# Altium footprint library MOLEX_22-23-2xx1.PcbLib: 9 footprints
Each footprint in its own frame and in the unit in brackets; x right, y up, seen from the top. Pads: shape width x height; smd on the part's side, far side on the other; paste and mask are expansions set on the pad; w line width, h text height; cw(c..) or ccw(c..) is an arc to the next point about the centre after c.
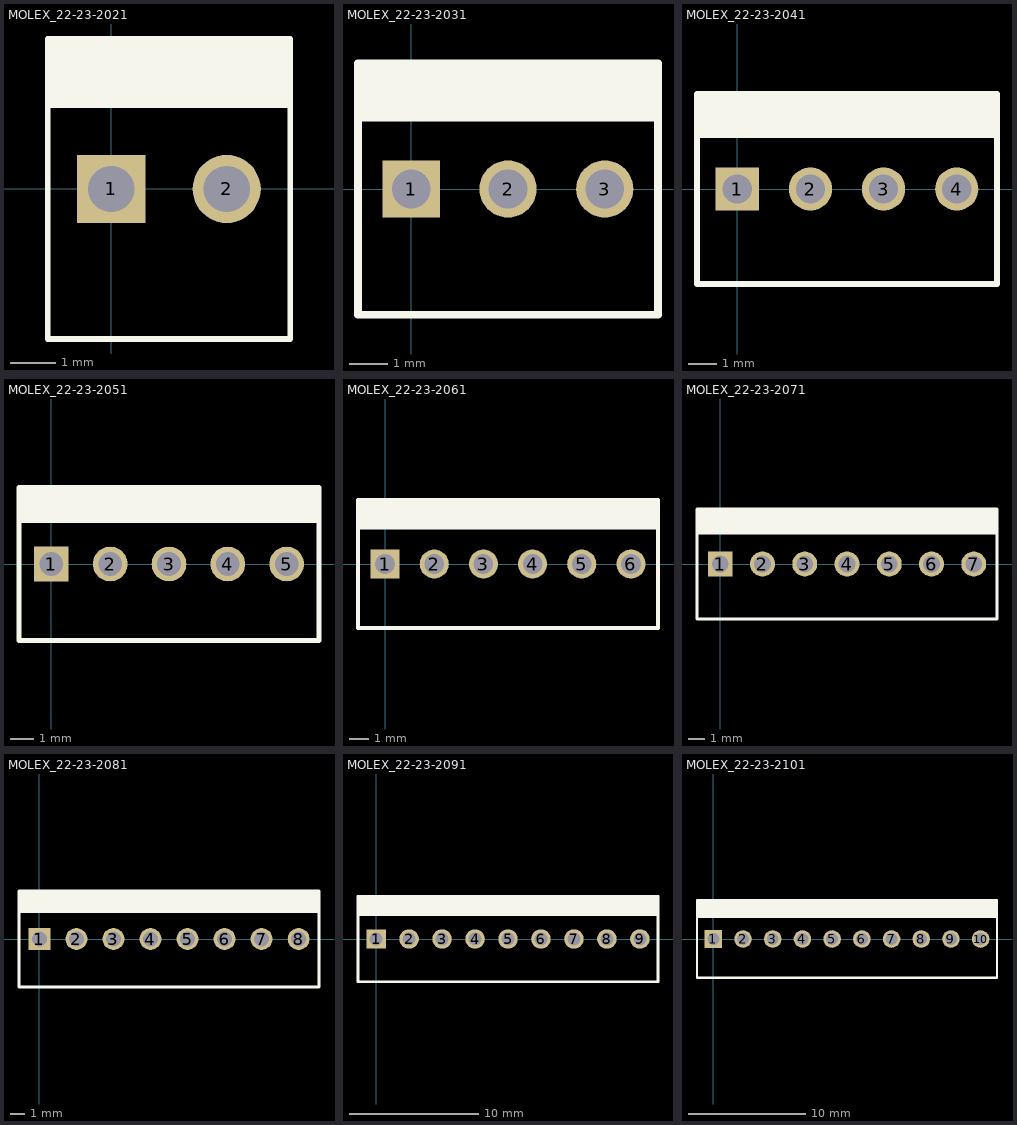
[diagram p0: the footprints below, top view; thin cyan lines are the x and y axes]

## MOLEX_22-23-2021 [mm]
pads (2):
  rect 1.5x1.5 hole 1.016: 1(0,0)
  round 1.5 hole 1.016: 2(2.54,0)
Top Overlay:
  rectangle: -1.397,1.778 3.937,3.302
  lines w0.127: -1.397,-3.302 -1.397,3.302 3.937,3.302 3.937,-3.302 -1.397,-3.302
3D body: height 10.74, standoff -3.48, extent -1.27,-3.175 3.81,3.175

## MOLEX_22-23-2031 [mm]
pads (3):
  rect 1.5x1.5 hole 1.016: 1(0,0)
  round 1.5 hole 1.016: 2(2.54,0) 3(5.08,0)
Top Overlay:
  rectangle: -1.397,1.778 6.477,3.302
  lines w0.2: -1.397,-3.302 -1.397,3.302 6.477,3.302 6.477,-3.302 -1.397,-3.302
3D body: height 10.74, standoff -3.48, extent -1.27,-3.175 6.35,3.175

## MOLEX_22-23-2041 [mm]
pads (4):
  rect 1.5x1.5 hole 1.016: 1(0,0)
  round 1.5 hole 1.016: 2(2.54,0) 3(5.08,0) 4(7.62,0)
Top Overlay:
  rectangle: -1.397,1.778 3.937,3.302
  rectangle: 3.683,1.778 9.017,3.302
  lines w0.2: 3.683,-3.302 9.017,-3.302 9.017,3.302 3.683,3.302 ; 3.937,-3.302 -1.397,-3.302 -1.397,3.302 3.937,3.302
3D body: height 10.74, standoff -3.48, extent 1.27,-3.175 8.89,3.175
3D body: height 10.74, standoff -3.48, extent -1.27,-3.175 6.35,3.175

## MOLEX_22-23-2051 [mm]
pads (5):
  rect 1.5x1.5 hole 1.016: 1(0,0)
  round 1.5 hole 1.016: 2(2.54,0) 3(5.08,0) 4(7.62,0) 5(10.16,0)
Top Overlay:
  rectangle: -1.397,1.778 11.557,3.302
  lines w0.2: -1.397,-3.302 -1.397,3.302 11.557,3.302 11.557,-3.302 -1.397,-3.302
3D body: height 10.74, standoff -3.48, extent 3.81,-3.175 11.43,3.175
3D body: height 10.74, standoff -3.48, extent -1.27,-3.175 6.35,3.175

## MOLEX_22-23-2061 [mm]
pads (6):
  rect 1.5x1.5 hole 1.016: 1(0,0)
  round 1.5 hole 1.016: 2(2.54,0) 3(5.08,0) 4(7.62,0) 5(10.16,0) 6(12.7,0)
Top Overlay:
  region: 14.097,3.302 -1.397,3.302 -1.397,1.778 14.097,1.778
  lines w0.2: -1.397,-3.302 -1.397,3.302 14.097,3.302 14.097,-3.302 -1.397,-3.302
3D body: height 10.74, standoff -3.48, extent -1.27,-3.175 6.35,3.175
3D body: height 10.74, standoff -3.48, extent 3.81,-3.175 11.43,3.175
3D body: height 10.74, standoff -3.48, extent 6.35,-3.175 13.97,3.175

## MOLEX_22-23-2071 [mm]
pads (7):
  rect 1.5x1.5 hole 1.016: 1(0,0)
  round 1.5 hole 1.016: 2(2.54,0) 3(5.08,0) 4(7.62,0) 5(10.16,0) 6(12.7,0) 7(15.24,0)
Top Overlay:
  region: 16.637,3.302 -1.397,3.302 -1.397,1.778 16.637,1.778
  lines w0.2: -1.397,-3.302 -1.397,3.302 16.637,3.302 16.637,-3.302 -1.397,-3.302
3D body: height 10.74, standoff -3.48, extent -1.27,-3.175 6.35,3.175
3D body: height 10.74, standoff -3.48, extent 3.81,-3.175 11.43,3.175
3D body: height 10.74, standoff -3.48, extent 8.89,-3.175 16.51,3.175

## MOLEX_22-23-2081 [mm]
pads (8):
  rect 1.5x1.5 hole 1.016: 1(0,0)
  round 1.5 hole 1.016: 2(2.54,0) 3(5.08,0) 4(7.62,0) 5(10.16,0) 6(12.7,0) 7(15.24,0) 8(17.78,0)
Top Overlay:
  region: 19.177,3.302 -1.397,3.302 -1.397,1.778 19.177,1.778
  lines w0.2: -1.397,-3.302 19.177,-3.302 19.177,3.302 -1.397,3.302 -1.397,-3.302
3D body: height 10.74, standoff -3.48, extent 11.43,-3.175 19.05,3.175
3D body: height 10.74, standoff -3.48, extent 8.89,-3.175 16.51,3.175
3D body: height 10.74, standoff -3.48, extent 3.81,-3.175 11.43,3.175
3D body: height 10.74, standoff -3.48, extent -1.27,-3.175 6.35,3.175

## MOLEX_22-23-2091 [mm]
pads (9):
  rect 1.5x1.5 hole 1.016: 1(0,0)
  round 1.5 hole 1.016: 2(2.54,0) 3(5.08,0) 4(7.62,0) 5(10.16,0) 6(12.7,0) 7(15.24,0) 8(17.78,0) 9(20.32,0)
Top Overlay:
  region: 21.717,3.302 -1.397,3.302 -1.397,1.778 21.717,1.778
  lines w0.2: -1.397,-3.302 -1.397,3.302 21.717,3.302 21.717,-3.302 -1.397,-3.302
3D body: height 10.74, standoff -3.48, extent 13.97,-3.175 21.59,3.175
3D body: height 10.74, standoff -3.48, extent 8.89,-3.175 16.51,3.175
3D body: height 10.74, standoff -3.48, extent 3.81,-3.175 11.43,3.175
3D body: height 10.74, standoff -3.48, extent -1.27,-3.175 6.35,3.175

## MOLEX_22-23-2101 [mm]
pads (10):
  rect 1.5x1.5 hole 1.016: 1(0,0)
  round 1.5 hole 1.016: 2(2.54,0) 3(5.08,0) 4(7.62,0) 5(10.16,0) 6(12.7,0) 7(15.24,0) 8(17.78,0) 9(20.32,0) 10(22.86,0)
Top Overlay:
  region: 24.257,3.302 -1.397,3.302 -1.397,1.778 24.257,1.778
  lines w0.2: -1.397,-3.302 -1.397,3.302 24.257,3.302 24.257,-3.302 -1.397,-3.302
3D body: height 10.74, standoff -3.48, extent 16.51,-3.175 24.13,3.175
3D body: height 10.74, standoff -3.48, extent 13.97,-3.175 21.59,3.175
3D body: height 10.74, standoff -3.48, extent 8.89,-3.175 16.51,3.175
3D body: height 10.74, standoff -3.48, extent 3.81,-3.175 11.43,3.175
3D body: height 10.74, standoff -3.48, extent -1.27,-3.175 6.35,3.175